# Altium schematic symbol library SparkFun-Capacitors.SCHLIB: 95 symbols
Pins are listed as number, name and electrical type; pins without a type are passive.

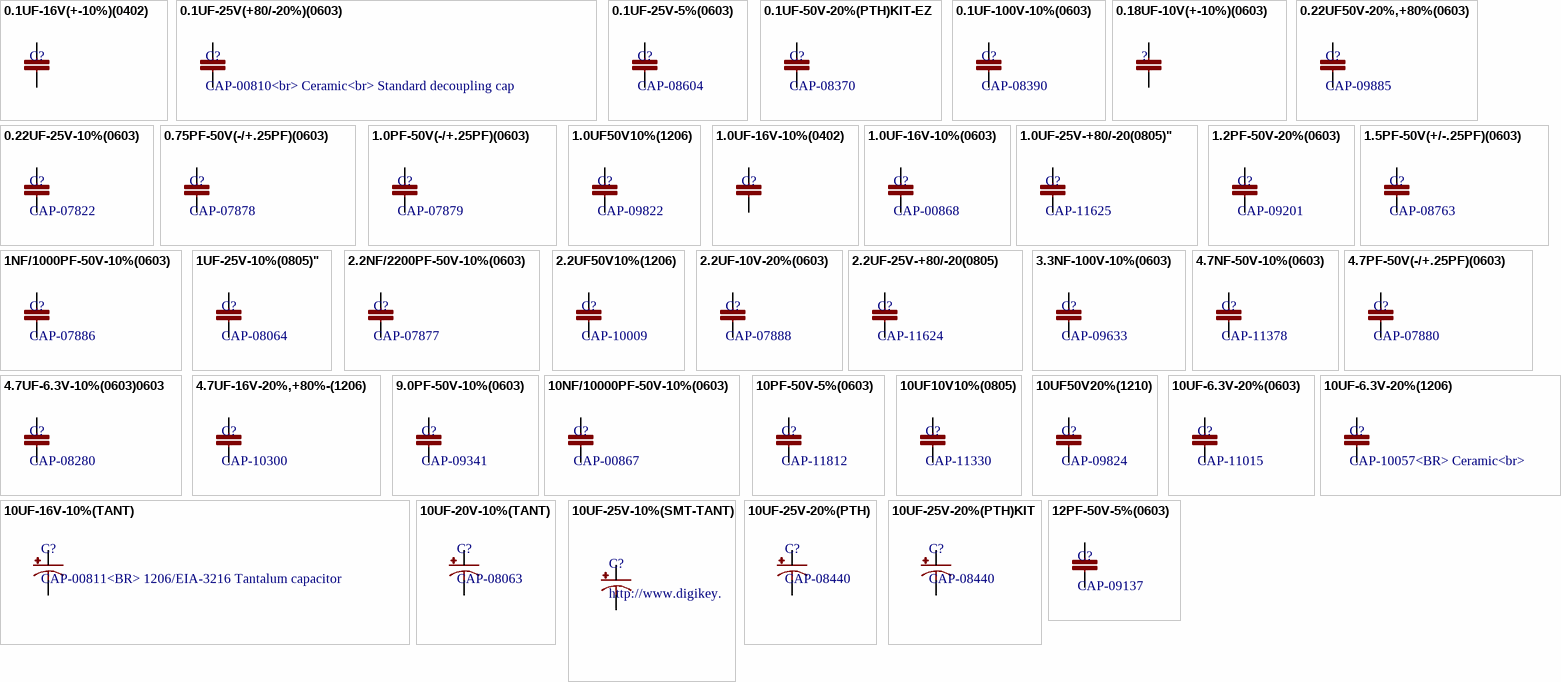
[diagram p0: symbols 0.1UF-16V(+-10%)(0402) to 12PF-50V-5%(0603)]

## 0.1UF-16V(+-10%)(0402)
designator C?
PROD_ID: CAP-12416
footprint 0402-CAP
pins: 1, 2

## 0.1UF-25V(+80/-20%)(0603)
designator C?, comment CAP-00810<br> / Ceramic<br> / Standard decoupling cap
PROD_ID: CAP-00810
footprint 0603-CAP
pins: 1, 2

## 0.1UF-25V-5%(0603)
designator C?, comment CAP-08604
PROD_ID: CAP-08604
footprint 0603-CAP
pins: 1, 2

## 0.1UF-50V-20%(PTH)KIT-EZ
designator C?, comment CAP-08370
PROD_ID: CAP-08370
footprint CAP-PTH-SMALL-KIT
pins: 1, 2

## 0.1UF-100V-10%(0603)
designator C?, comment CAP-08390
PROD_ID: CAP-08390
footprint 0603-CAP
pins: 1, 2

## 0.18UF-10V(+-10%)(0603)
designator ?
PROD_ID: CAP-12380
footprint 0603
pins: 1, 2

## 0.22UF50V-20%,+80%(0603)
designator C?, comment CAP-09885
PROD_ID: CAP-09885
footprint 0603-CAP
pins: 1, 2

## 0.22UF-25V-10%(0603)
designator C?, comment CAP-07822
PROD_ID: CAP-07822
footprint 0603-CAP
pins: 1, 2

## 0.75PF-50V(-/+.25PF)(0603)
designator C?, comment CAP-07878
PROD_ID: CAP-07878
footprint 0603-CAP
pins: 1, 2

## 1.0PF-50V(-/+.25PF)(0603)
designator C?, comment CAP-07879
PROD_ID: CAP-07879
footprint 0603-CAP
pins: 1, 2

## 1.0UF50V10%(1206)
designator C?, comment CAP-09822
PROD_ID: CAP-09822
footprint 1206
pins: 1, 2

## 1.0UF-16V-10%(0402)
designator C?
PROD_ID: CAP-12417
footprint 0402-CAP
pins: 1, 2

## 1.0UF-16V-10%(0603)
designator C?, comment CAP-00868
PROD_ID: CAP-00868
footprint 0603-CAP
pins: 1, 2

## 1.0UF-25V-+80/-20(0805)"
designator C?, comment CAP-11625
PROD_ID: CAP-11625
footprint 0805-CAP
pins: 1, 2

## 1.2PF-50V-20%(0603)
designator C?, comment CAP-09201
PROD_ID: CAP-09201
footprint 0603-CAP
pins: 1, 2

## 1.5PF-50V(+/-.25PF)(0603)
designator C?, comment CAP-08763
PROD_ID: CAP-08763
footprint 0603-CAP
pins: 1, 2

## 1NF/1000PF-50V-10%(0603)
designator C?, comment CAP-07886
PROD_ID: CAP-07886
footprint 0603-CAP
pins: 1, 2

## 1UF-25V-10%(0805)"
designator C?, comment CAP-08064
footprint 0805-CAP
pins: 1, 2

## 2.2NF/2200PF-50V-10%(0603)
designator C?, comment CAP-07877
PROD_ID: CAP-07877
footprint 0603-CAP
pins: 1, 2

## 2.2UF50V10%(1206)
designator C?, comment CAP-10009
PROD_ID: CAP-10009
footprint 1206
pins: 1, 2

## 2.2UF-10V-20%(0603)
designator C?, comment CAP-07888
PROD_ID: CAP-07888
footprint 0603-CAP
pins: 1, 2

## 2.2UF-25V-+80/-20(0805)
designator C?, comment CAP-11624
PROD_ID: CAP-11624
footprint 0805-CAP
pins: 1, 2

## 3.3NF-100V-10%(0603)
designator C?, comment CAP-09633
PROD_ID: CAP-09633
footprint 0603-CAP
pins: 1, 2

## 4.7NF-50V-10%(0603)
designator C?, comment CAP-11378
PROD_ID: CAP-11378
footprint 0603-CAP
pins: 1, 2

## 4.7PF-50V(-/+.25PF)(0603)
designator C?, comment CAP-07880
PROD_ID: CAP-07880
footprint 0603-CAP
pins: 1, 2

## 4.7UF-6.3V-10%(0603)0603
designator C?, comment CAP-08280
PROD_ID: CAP-08280
footprint 0603-CAP
pins: 1, 2

## 4.7UF-16V-20%,+80%-(1206)
designator C?, comment CAP-10300
PROD_ID: CAP-10300
footprint 1206-CAP
pins: 1, 2

## 9.0PF-50V-10%(0603)
designator C?, comment CAP-09341
PROD_ID: CAP-09341
footprint 0603-CAP
pins: 1, 2

## 10NF/10000PF-50V-10%(0603)
designator C?, comment CAP-00867
PROD_ID: CAP-00867
footprint 0603-CAP
pins: 1, 2

## 10PF-50V-5%(0603)
designator C?, comment CAP-11812
PROD_ID: CAP-11812
footprint 0603-CAP
pins: 1, 2

## 10UF10V10%(0805)
designator C?, comment CAP-11330
PROD_ID: CAP-11330
footprint 0805-CAP
pins: 1, 2

## 10UF50V20%(1210)
designator C?, comment CAP-09824
PROD_ID: CAP-09824
footprint 1210
pins: 1, 2

## 10UF-6.3V-20%(0603)
designator C?, comment CAP-11015
PROD_ID: CAP-11015
footprint 0603-CAP
pins: 1, 2

## 10UF-6.3V-20%(1206)
designator C?, comment CAP-10057<BR> / Ceramic<br>
PROD_ID: CAP-10057
footprint 1206
pins: 1, 2

## 10UF-16V-10%(TANT)
designator C?, comment CAP-00811<BR> / 1206/EIA-3216 Tantalum capacitor
PROD_ID: CAP-00811
footprint EIA3216
pins: A +, C -

## 10UF-20V-10%(TANT)
designator C?, comment CAP-08063
PROD_ID: CAP-08063
footprint EIA3528
pins: A +, C -

## 10UF-25V-10%(SMT-TANT)
designator C?, comment http://www.digikey.com/product-detail/en/T491C106K025AT7280/399-10159-2-ND/3759638
PROD_ID: CAP-12984
footprint EIA6032-NOM
pins: A +, C -

## 10UF-25V-20%(PTH)
designator C?, comment CAP-08440
PROD_ID: CAP-08440
footprint CPOL-RADIAL-10UF-25V
pins: 1 +, 2 -

## 10UF-25V-20%(PTH)KIT
designator C?, comment CAP-08440
PROD_ID: CAP-08440
footprint CPOL-RADIAL-10UF-25V-KIT
pins: 1 +, 2 -

## 12PF-50V-5%(0603)
designator C?, comment CAP-09137
PROD_ID: CAP-09137
footprint 0603-CAP
pins: 1, 2

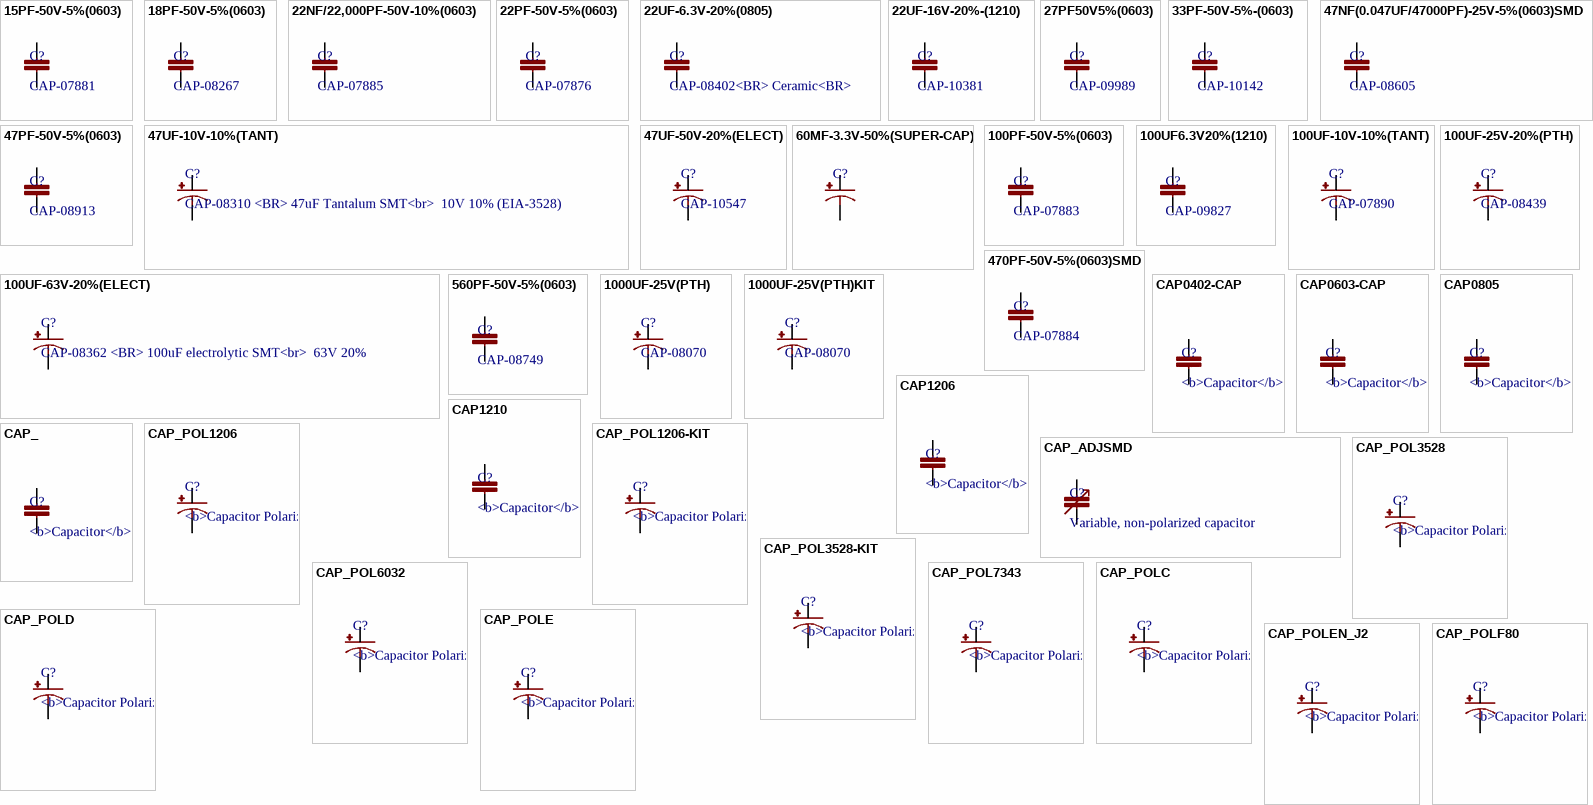
[diagram p1: symbols 15PF-50V-5%(0603) to CAP_POLF80]

## 15PF-50V-5%(0603)
designator C?, comment CAP-07881
PROD_ID: CAP-07881
footprint 0603-CAP
pins: 1, 2

## 18PF-50V-5%(0603)
designator C?, comment CAP-08267
PROD_ID: CAP-08267
footprint 0603-CAP
pins: 1, 2

## 22NF/22,000PF-50V-10%(0603)
designator C?, comment CAP-07885
PROD_ID: CAP-07885
footprint 0603-CAP
pins: 1, 2

## 22PF-50V-5%(0603)
designator C?, comment CAP-07876
PROD_ID: CAP-07876
footprint 0603-CAP
pins: 1, 2

## 22UF-6.3V-20%(0805)
designator C?, comment CAP-08402<BR> / Ceramic<BR>
PROD_ID: CAP-08402
footprint 0805
pins: 1, 2

## 22UF-16V-20%-(1210)
designator C?, comment CAP-10381
PROD_ID: CAP-10381
footprint 1210
pins: 1, 2

## 27PF50V5%(0603)
designator C?, comment CAP-09989
PROD_ID: CAP-09989
footprint 0603-CAP
pins: 1, 2

## 33PF-50V-5%-(0603)
designator C?, comment CAP-10142
PROD_ID: CAP-10142
footprint 0603-CAP
pins: 1, 2

## 47NF(0.047UF/47000PF)-25V-5%(0603)SMD
designator C?, comment CAP-08605
PROD_ID: CAP-08605
footprint 0603-CAP
pins: 1, 2

## 47PF-50V-5%(0603)
designator C?, comment CAP-08913
PROD_ID: CAP-08913
footprint 0603-CAP
pins: 1, 2

## 47UF-10V-10%(TANT)
designator C?, comment CAP-08310 <BR> / 47uF Tantalum SMT<br> / 10V 10% (EIA-3528)
PROD_ID: CAP-08310
footprint EIA3528
pins: A +, C -

## 47UF-50V-20%(ELECT)
designator C?, comment CAP-10547
PROD_ID: CAP-10547
footprint PANASONIC_D
pins: +, -

## 60MF-3.3V-50%(SUPER-CAP)
designator C?
PROD_ID: CAP-12603
footprint CAP-311-VA6R
pins: 1 +, 2 -

## 100PF-50V-5%(0603)
designator C?, comment CAP-07883
PROD_ID: CAP-07883
footprint 0603-CAP
pins: 1, 2

## 100UF6.3V20%(1210)
designator C?, comment CAP-09827
PROD_ID: CAP-09827
footprint 1210
pins: 1, 2

## 100UF-10V-10%(TANT)
designator C?, comment CAP-07890
PROD_ID: CAP-07890
footprint EIA7343
pins: A +, C -

## 100UF-25V-20%(PTH)
designator C?, comment CAP-08439
PROD_ID: CAP-08439
footprint CPOL-RADIAL-100UF-25V
pins: 1 +, 2 -

## 100UF-63V-20%(ELECT)
designator C?, comment CAP-08362 <BR> / 100uF electrolytic SMT<br> / 63V 20%
PROD_ID: CAP-08362
footprint NIC_10X10.5_CAP
pins: +, -

## 470PF-50V-5%(0603)SMD
designator C?, comment CAP-07884
PROD_ID: CAP-07884
footprint 0603-CAP
pins: 1, 2

## 560PF-50V-5%(0603)
designator C?, comment CAP-08749
PROD_ID: CAP-08749
footprint 0603-CAP
pins: 1, 2

## 1000UF-25V(PTH)
designator C?, comment CAP-08070
PROD_ID: CAP-09538
footprint CPOL-RADIAL-1000UF-25V
pins: +, -

## 1000UF-25V(PTH)KIT
designator C?, comment CAP-08070
PROD_ID: CAP-09538
footprint CPOL-RADIAL-1000UF-25V-KIT
pins: +, -

## CAP0402-CAP
designator C?, comment <b>Capacitor</b> / Standard 0603 ceramic capacitor, and 0.1" leaded capacitor.
footprint 0402-CAP
pins: 1, 2

## CAP0603-CAP
designator C?, comment <b>Capacitor</b> / Standard 0603 ceramic capacitor, and 0.1" leaded capacitor.
footprint 0603-CAP
pins: 1, 2

## CAP0805
designator C?, comment <b>Capacitor</b> / Standard 0603 ceramic capacitor, and 0.1" leaded capacitor.
footprint 0805
pins: 1, 2

## CAP1206
designator C?, comment <b>Capacitor</b> / Standard 0603 ceramic capacitor, and 0.1" leaded capacitor.
footprint 1206
pins: 1, 2

## CAP1210
designator C?, comment <b>Capacitor</b> / Standard 0603 ceramic capacitor, and 0.1" leaded capacitor.
footprint 1210
pins: 1, 2

## CAP_
designator C?, comment <b>Capacitor</b> / Standard 0603 ceramic capacitor, and 0.1" leaded capacitor.
footprint AXIAL-5MM
pins: P$1 1, P$2 2

## CAP_ADJSMD
designator C?, comment Variable, non-polarized capacitor
footprint CTZ3
pins: + 3, - 4

## CAP_POL1206
designator C?, comment <b>Capacitor Polarized</b> / These are standard SMD and PTH capacitors. Normally 10uF, 47uF, and 100uF in electrolytic and tantalum varieties. Always verify the external diameter of the through hole cap, it varies with capacity, voltage, and manufacturer. The EIA devices should be standard.
footprint EIA3216
pins: A +, C -

## CAP_POL1206-KIT
designator C?, comment <b>Capacitor Polarized</b> / These are standard SMD and PTH capacitors. Normally 10uF, 47uF, and 100uF in electrolytic and tantalum varieties. Always verify the external diameter of the through hole cap, it varies with capacity, voltage, and manufacturer. The EIA devices should be standard.
footprint EIA3216-KIT
pins: A +, C -

## CAP_POL3528
designator C?, comment <b>Capacitor Polarized</b> / These are standard SMD and PTH capacitors. Normally 10uF, 47uF, and 100uF in electrolytic and tantalum varieties. Always verify the external diameter of the through hole cap, it varies with capacity, voltage, and manufacturer. The EIA devices should be standard.
footprint EIA3528
pins: A +, C -

## CAP_POL3528-KIT
designator C?, comment <b>Capacitor Polarized</b> / These are standard SMD and PTH capacitors. Normally 10uF, 47uF, and 100uF in electrolytic and tantalum varieties. Always verify the external diameter of the through hole cap, it varies with capacity, voltage, and manufacturer. The EIA devices should be standard.
footprint EIA3528-KIT
pins: A +, C -

## CAP_POL6032
designator C?, comment <b>Capacitor Polarized</b> / These are standard SMD and PTH capacitors. Normally 10uF, 47uF, and 100uF in electrolytic and tantalum varieties. Always verify the external diameter of the through hole cap, it varies with capacity, voltage, and manufacturer. The EIA devices should be standard.
footprint EIA6032
pins: P$1 +, P$2 -

## CAP_POL7343
designator C?, comment <b>Capacitor Polarized</b> / These are standard SMD and PTH capacitors. Normally 10uF, 47uF, and 100uF in electrolytic and tantalum varieties. Always verify the external diameter of the through hole cap, it varies with capacity, voltage, and manufacturer. The EIA devices should be standard.
PROD_ID: CAP-08702
footprint EIA7343
pins: A +, C -

## CAP_POLC
designator C?, comment <b>Capacitor Polarized</b> / These are standard SMD and PTH capacitors. Normally 10uF, 47uF, and 100uF in electrolytic and tantalum varieties. Always verify the external diameter of the through hole cap, it varies with capacity, voltage, and manufacturer. The EIA devices should be standard.
footprint PANASONIC_C
pins: +, -

## CAP_POLD
designator C?, comment <b>Capacitor Polarized</b> / These are standard SMD and PTH capacitors. Normally 10uF, 47uF, and 100uF in electrolytic and tantalum varieties. Always verify the external diameter of the through hole cap, it varies with capacity, voltage, and manufacturer. The EIA devices should be standard.
footprint PANASONIC_D
pins: +, -

## CAP_POLE
designator C?, comment <b>Capacitor Polarized</b> / These are standard SMD and PTH capacitors. Normally 10uF, 47uF, and 100uF in electrolytic and tantalum varieties. Always verify the external diameter of the through hole cap, it varies with capacity, voltage, and manufacturer. The EIA devices should be standard.
footprint PANASONIC_E
pins: +, -

## CAP_POLEN_J2
designator C?, comment <b>Capacitor Polarized</b> / These are standard SMD and PTH capacitors. Normally 10uF, 47uF, and 100uF in electrolytic and tantalum varieties. Always verify the external diameter of the through hole cap, it varies with capacity, voltage, and manufacturer. The EIA devices should be standard.
footprint EN_J2
pins: +, -

## CAP_POLF80
designator C?, comment <b>Capacitor Polarized</b> / These are standard SMD and PTH capacitors. Normally 10uF, 47uF, and 100uF in electrolytic and tantalum varieties. Always verify the external diameter of the through hole cap, it varies with capacity, voltage, and manufacturer. The EIA devices should be standard.
footprint NIPPON_F80
pins: +, -

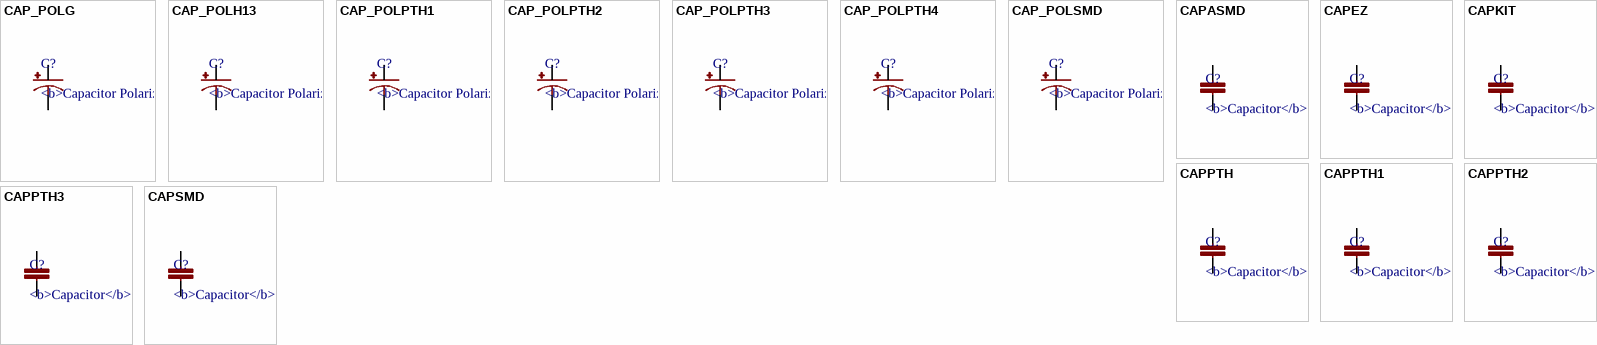
[diagram p2: symbols CAP_POLG to CAPSMD]

## CAP_POLG
designator C?, comment <b>Capacitor Polarized</b> / These are standard SMD and PTH capacitors. Normally 10uF, 47uF, and 100uF in electrolytic and tantalum varieties. Always verify the external diameter of the through hole cap, it varies with capacity, voltage, and manufacturer. The EIA devices should be standard.
footprint PANASONIC_G
pins: +, -

## CAP_POLH13
designator C?, comment <b>Capacitor Polarized</b> / These are standard SMD and PTH capacitors. Normally 10uF, 47uF, and 100uF in electrolytic and tantalum varieties. Always verify the external diameter of the through hole cap, it varies with capacity, voltage, and manufacturer. The EIA devices should be standard.
footprint PANASONIC_H13
pins: +, -

## CAP_POLPTH1
designator C?, comment <b>Capacitor Polarized</b> / These are standard SMD and PTH capacitors. Normally 10uF, 47uF, and 100uF in electrolytic and tantalum varieties. Always verify the external diameter of the through hole cap, it varies with capacity, voltage, and manufacturer. The EIA devices should be standard.
footprint CPOL-RADIAL-100UF-25V
pins: 1 +, 2 -

## CAP_POLPTH2
designator C?, comment <b>Capacitor Polarized</b> / These are standard SMD and PTH capacitors. Normally 10uF, 47uF, and 100uF in electrolytic and tantalum varieties. Always verify the external diameter of the through hole cap, it varies with capacity, voltage, and manufacturer. The EIA devices should be standard.
footprint CPOL-RADIAL-10UF-25V
pins: 1 +, 2 -

## CAP_POLPTH3
designator C?, comment <b>Capacitor Polarized</b> / These are standard SMD and PTH capacitors. Normally 10uF, 47uF, and 100uF in electrolytic and tantalum varieties. Always verify the external diameter of the through hole cap, it varies with capacity, voltage, and manufacturer. The EIA devices should be standard.
footprint CPOL-RADIAL-1000UF-63V
pins: 1 +, 2 -

## CAP_POLPTH4
designator C?, comment <b>Capacitor Polarized</b> / These are standard SMD and PTH capacitors. Normally 10uF, 47uF, and 100uF in electrolytic and tantalum varieties. Always verify the external diameter of the through hole cap, it varies with capacity, voltage, and manufacturer. The EIA devices should be standard.
footprint CPOL-RADIAL-1000UF-25V
pins: +, -

## CAP_POLSMD
designator C?, comment <b>Capacitor Polarized</b> / These are standard SMD and PTH capacitors. Normally 10uF, 47uF, and 100uF in electrolytic and tantalum varieties. Always verify the external diameter of the through hole cap, it varies with capacity, voltage, and manufacturer. The EIA devices should be standard.
footprint VISHAY_C
pins: +, -

## CAPASMD
designator C?, comment <b>Capacitor</b> / Standard 0603 ceramic capacitor, and 0.1" leaded capacitor.
footprint CTZ3
pins: + 1, - 2

## CAPEZ
designator C?, comment <b>Capacitor</b> / Standard 0603 ceramic capacitor, and 0.1" leaded capacitor.
footprint CAP-PTH-SMALLEZ
pins: 1, 2

## CAPKIT
designator C?, comment <b>Capacitor</b> / Standard 0603 ceramic capacitor, and 0.1" leaded capacitor.
footprint CAP-PTH-SMALL-KIT
pins: 1, 2

## CAPPTH
designator C?, comment <b>Capacitor</b> / Standard 0603 ceramic capacitor, and 0.1" leaded capacitor.
footprint CAP-PTH-SMALL
pins: 1, 2

## CAPPTH1
designator C?, comment <b>Capacitor</b> / Standard 0603 ceramic capacitor, and 0.1" leaded capacitor.
footprint CAP-PTH-5MM
pins: 1, 2

## CAPPTH2
designator C?, comment <b>Capacitor</b> / Standard 0603 ceramic capacitor, and 0.1" leaded capacitor.
footprint CAP-PTH-SMALL2
pins: 1, 2

## CAPPTH3
designator C?, comment <b>Capacitor</b> / Standard 0603 ceramic capacitor, and 0.1" leaded capacitor.
footprint CAP-PTH-LARGE
pins: 1, 2

## CAPSMD
designator C?, comment <b>Capacitor</b> / Standard 0603 ceramic capacitor, and 0.1" leaded capacitor.
footprint GRM43D
pins: A 1, C 2